# EAGLE library part SAMC21-XPLAINED-PRO (library Oxford Uni Racing Custom Blueprints)
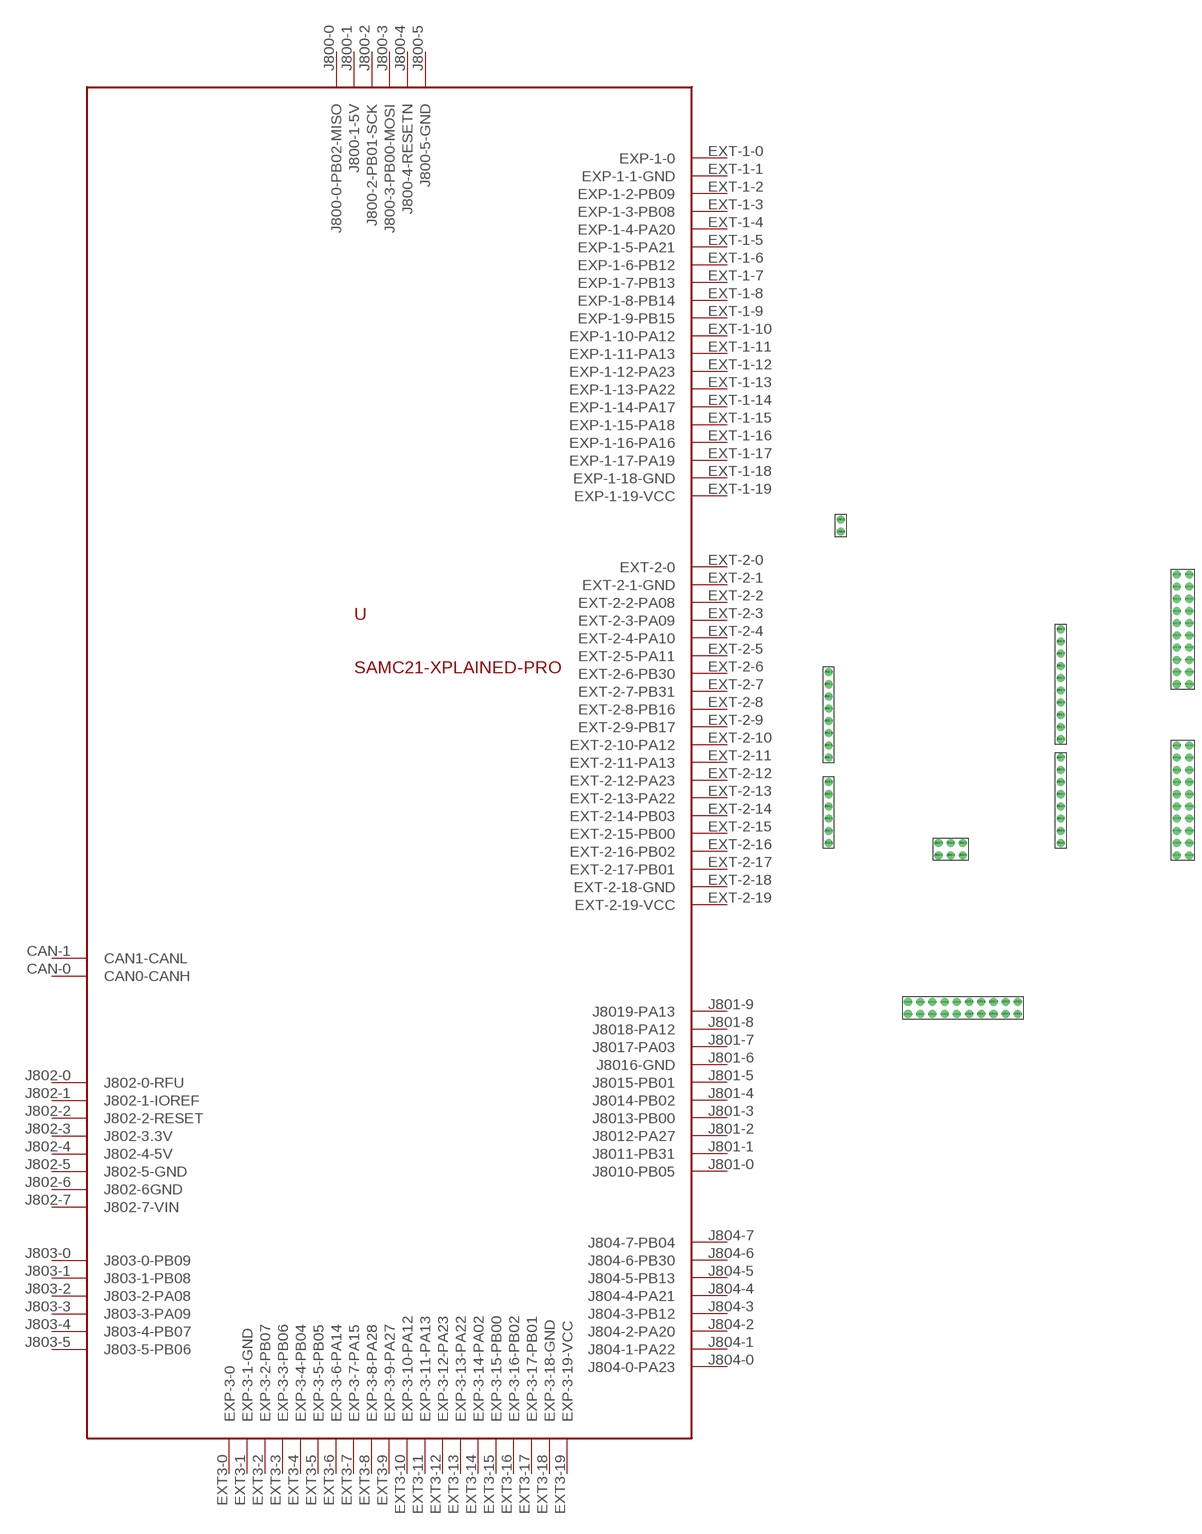
[diagram p1: symbol with the pads of SAMC21-XPLAINED-PRO; footprint SAMC21-XPLAINED-PRO]

Designator prefix -

## SAMC21-XPLAINED-PRO  [SAMC21-XPLAINED-PRO]
CAN-0  CAN0-CANH
CAN-1  CAN1-CANL
EXT3-0  EXP-3-0
EXT3-1  EXP-3-1-GND
EXT3-2  EXP-3-2-PB07
EXT3-3  EXP-3-3-PB06
EXT3-4  EXP-3-4-PB04
EXT3-5  EXP-3-5-PB05
EXT3-6  EXP-3-6-PA14
EXT3-7  EXP-3-7-PA15
EXT3-8  EXP-3-8-PA28
EXT3-9  EXP-3-9-PA27
EXT3-10  EXP-3-10-PA12
EXT3-11  EXP-3-11-PA13
EXT3-12  EXP-3-12-PA23
EXT3-13  EXP-3-13-PA22
EXT3-14  EXP-3-14-PA02
EXT3-15  EXP-3-15-PB00
EXT3-16  EXP-3-16-PB02
EXT3-17  EXP-3-17-PB01
EXT3-18  EXP-3-18-GND
EXT3-19  EXP-3-19-VCC
EXT-1-0  EXP-1-0
EXT-1-1  EXP-1-1-GND
EXT-1-2  EXP-1-2-PB09
EXT-1-3  EXP-1-3-PB08
EXT-1-4  EXP-1-4-PA20
EXT-1-5  EXP-1-5-PA21
EXT-1-6  EXP-1-6-PB12
EXT-1-7  EXP-1-7-PB13
EXT-1-8  EXP-1-8-PB14
EXT-1-9  EXP-1-9-PB15
EXT-1-10  EXP-1-10-PA12
EXT-1-11  EXP-1-11-PA13
EXT-1-12  EXP-1-12-PA23
EXT-1-13  EXP-1-13-PA22
EXT-1-14  EXP-1-14-PA17
EXT-1-15  EXP-1-15-PA18
EXT-1-16  EXP-1-16-PA16
EXT-1-17  EXP-1-17-PA19
EXT-1-18  EXP-1-18-GND
EXT-1-19  EXP-1-19-VCC
EXT-2-0  EXT-2-0
EXT-2-1  EXT-2-1-GND
EXT-2-2  EXT-2-2-PA08
EXT-2-3  EXT-2-3-PA09
EXT-2-4  EXT-2-4-PA10
EXT-2-5  EXT-2-5-PA11
EXT-2-6  EXT-2-6-PB30
EXT-2-7  EXT-2-7-PB31
EXT-2-8  EXT-2-8-PB16
EXT-2-9  EXT-2-9-PB17
EXT-2-10  EXT-2-10-PA12
EXT-2-11  EXT-2-11-PA13
EXT-2-12  EXT-2-12-PA23
EXT-2-13  EXT-2-13-PA22
EXT-2-14  EXT-2-14-PB03
EXT-2-15  EXT-2-15-PB00
EXT-2-16  EXT-2-16-PB02
EXT-2-17  EXT-2-17-PB01
EXT-2-18  EXT-2-18-GND
EXT-2-19  EXT-2-19-VCC
J800-0  J800-0-PB02-MISO
J800-1  J800-1-5V
J800-2  J800-2-PB01-SCK
J800-3  J800-3-PB00-MOSI
J800-4  J800-4-RESETN
J800-5  J800-5-GND
J801-0  J8010-PB05
J801-1  J8011-PB31
J801-2  J8012-PA27
J801-3  J8013-PB00
J801-4  J8014-PB02
J801-5  J8015-PB01
J801-6  J8016-GND
J801-7  J8017-PA03
J801-8  J8018-PA12
J801-9  J8019-PA13
J802-0  J802-0-RFU
J802-1  J802-1-IOREF
J802-2  J802-2-RESET
J802-3  J802-3.3V
J802-4  J802-4-5V
J802-5  J802-5-GND
J802-6  J802-6GND
J802-7  J802-7-VIN
J803-0  J803-0-PB09
J803-1  J803-1-PB08
J803-2  J803-2-PA08
J803-3  J803-3-PA09
J803-4  J803-4-PB07
J803-5  J803-5-PB06
J804-0  J804-0-PA23
J804-1  J804-1-PA22
J804-2  J804-2-PA20
J804-3  J804-3-PB12
J804-4  J804-4-PA21
J804-5  J804-5-PB13
J804-6  J804-6-PB30
J804-7  J804-7-PB04

## Footprint SAMC21-XPLAINED-PRO (pad centres in mm)
drill 0.8 pad 1.676: CAN-0 2.54,64.77; CAN-1 2.54,67.31; EXT3-0 39.37,-33.02; EXT3-1 39.37,-35.56; EXT3-2 36.83,-33.02; EXT3-3 36.83,-35.56; EXT3-4 34.29,-33.02; EXT3-5 34.29,-35.56; EXT3-6 31.75,-33.02; EXT3-7 31.75,-35.56; EXT3-8 29.21,-33.02; EXT3-9 29.21,-35.56; EXT3-10 26.67,-33.02; EXT3-11 26.67,-35.56; EXT3-12 24.13,-33.02; EXT3-13 24.13,-35.56; EXT3-14 21.59,-33.02; EXT3-15 21.59,-35.56; EXT3-16 19.05,-33.02; EXT3-17 19.05,-35.56; EXT3-18 16.51,-33.02; EXT3-19 16.51,-35.56; EXT-1-0 72.39,55.88; EXT-1-1 74.93,55.88; EXT-1-2 72.39,53.34; EXT-1-3 74.93,53.34; EXT-1-4 72.39,50.8; EXT-1-5 74.93,50.8; EXT-1-6 72.39,48.26; EXT-1-7 74.93,48.26; EXT-1-8 72.39,45.72; EXT-1-9 74.93,45.72; EXT-1-10 72.39,43.18; EXT-1-11 74.93,43.18; EXT-1-12 72.39,40.64; EXT-1-13 74.93,40.64; EXT-1-14 72.39,38.1; EXT-1-15 74.93,38.1; EXT-1-16 72.39,35.56; EXT-1-17 74.93,35.56; EXT-1-18 72.39,33.02; EXT-1-19 74.93,33.02; EXT-2-0 72.39,20.32; EXT-2-1 74.93,20.32; EXT-2-2 72.39,17.78; EXT-2-3 74.93,17.78; EXT-2-4 72.39,15.24; EXT-2-5 74.93,15.24; EXT-2-6 72.39,12.7; EXT-2-7 74.93,12.7; EXT-2-8 72.39,10.16; EXT-2-9 74.93,10.16; EXT-2-10 72.39,7.62; EXT-2-11 74.93,7.62; EXT-2-12 72.39,5.08; EXT-2-13 74.93,5.08; EXT-2-14 72.39,2.54; EXT-2-15 74.93,2.54; EXT-2-16 72.39,0; EXT-2-17 74.93,0; EXT-2-18 72.39,-2.54; EXT-2-19 74.93,-2.54; J800-0 27.94,0; J800-1 27.94,-2.54; J800-2 25.4,0; J800-3 25.4,-2.54; J800-4 22.86,0; J800-5 22.86,-2.54; J801-0 48.26,21.59; J801-1 48.26,24.13; J801-2 48.26,26.67; J801-3 48.26,29.21; J801-4 48.26,31.75; J801-5 48.26,34.29; J801-6 48.26,36.83; J801-7 48.26,39.37; J801-8 48.26,41.91; J801-9 48.26,44.45; J802-0 0,35.56; J802-1 0,33.02; J802-2 0,30.48; J802-3 0,27.94; J802-4 0,25.4; J802-5 0,22.86; J802-6 0,20.32; J802-7 0,17.78; J803-0 0,12.7; J803-1 0,10.16; J803-2 0,7.62; J803-3 0,5.08; J803-4 0,2.54; J803-5 0,0; J804-0 48.26,0; J804-1 48.26,2.54; J804-2 48.26,5.08; J804-3 48.26,7.62; J804-4 48.26,10.16; J804-5 48.26,12.7; J804-6 48.26,15.24; J804-7 48.26,17.78